# Altium schematic symbol library 140UD8.Schlib: 1 symbol
Pins are listed as number, name and electrical type; pins without a type are passive.

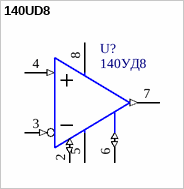
[diagram p0: symbol 140UD8]

## 140UD8
designator U?, comment 140УД8
Operational Amplifier; Назначение: Операционный усилитель; Наименование: 140УД8
footprint 544УД2А
pins: 2 BL1 (io), 3 -IN (in), 4 +IN (in), 5 V- (power), 6 BL2 (io), 7 OUT (out), 8 V+ (power)